# Altium footprint library SR PCB Library V01.PcbLib: 402 footprints (part 1 of 26)
Each footprint in its own frame and in the unit in brackets; x right, y up, seen from the top. Pads: shape width x height; smd on the part's side, far side on the other; paste and mask are expansions set on the pad; w line width, h text height; cw(c..) or ccw(c..) is an arc to the next point about the centre after c.
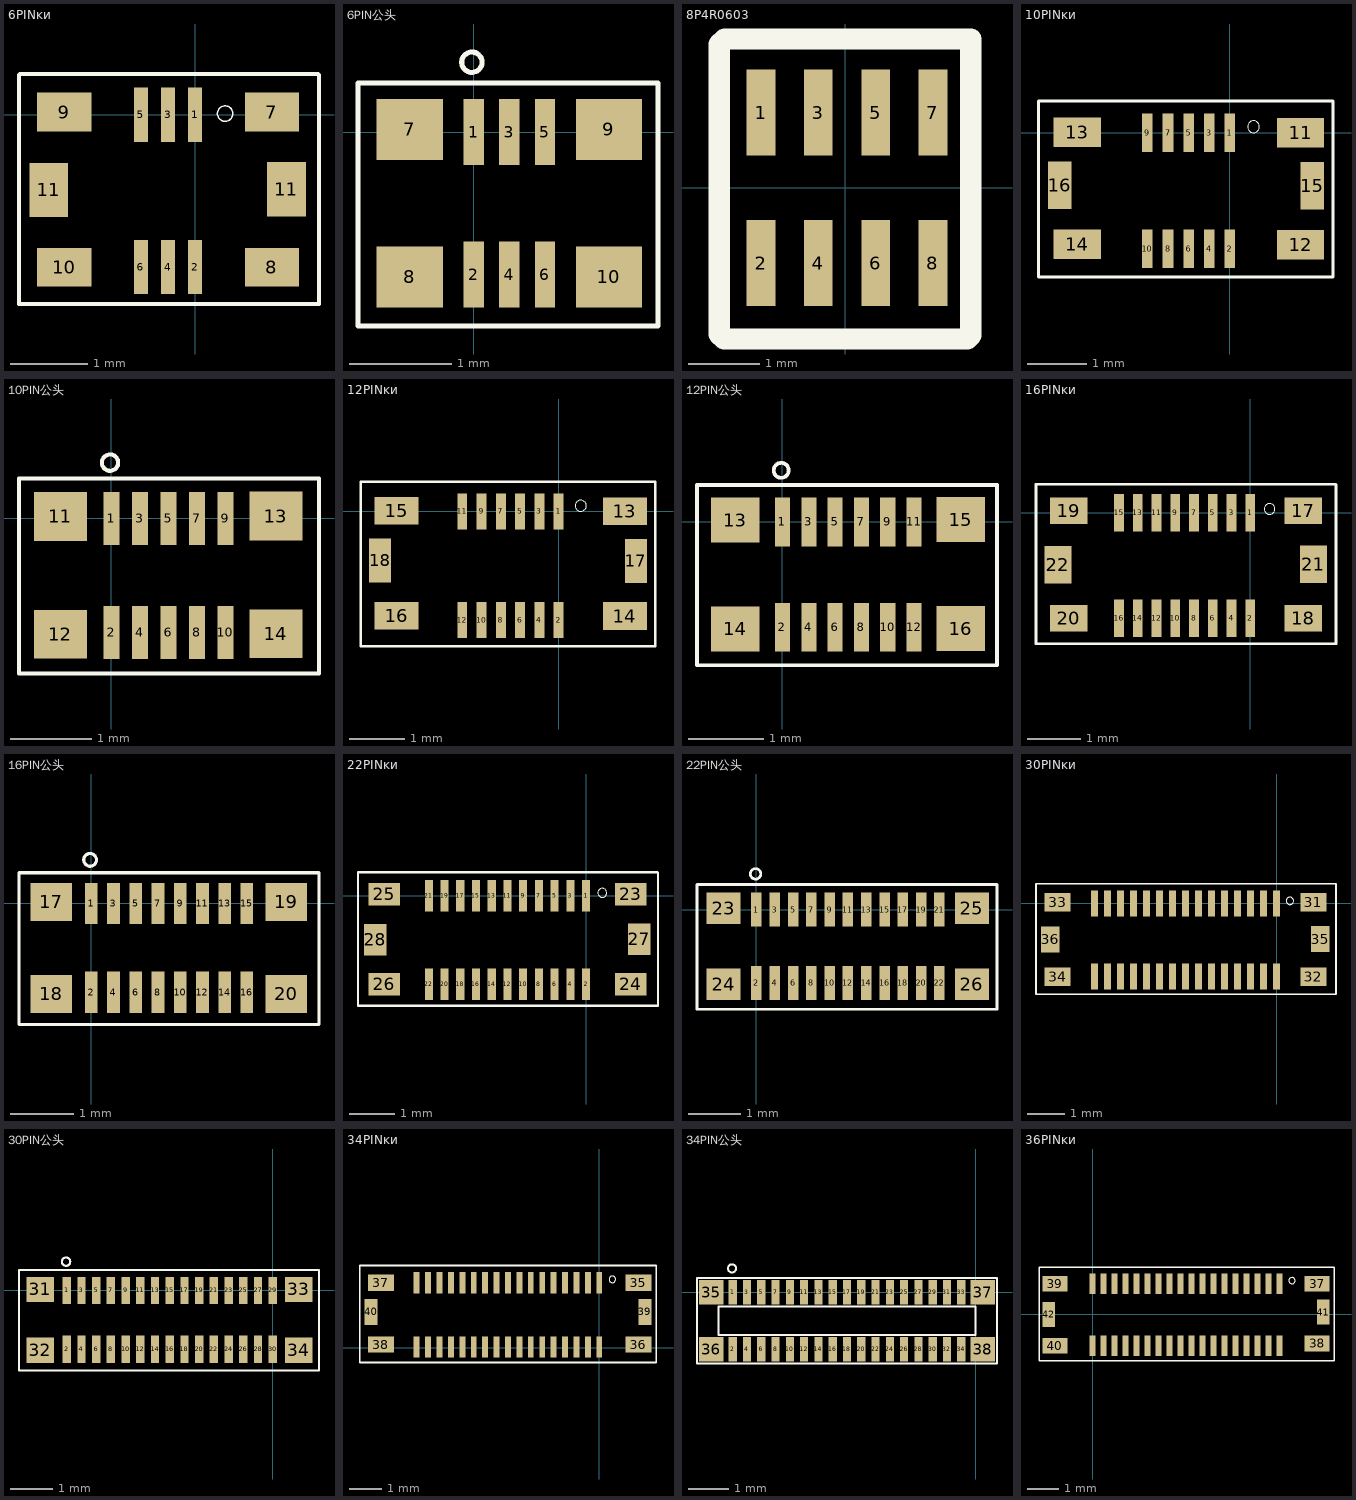
[diagram p0: the footprints below, top view; thin cyan lines are the x and y axes]

## 6PINĸͷ [mm]
pads (12):
  rect 0.18x0.7 smd: 1(0,0) 2(0,-1.97) 3(-0.35,0) 4(-0.35,-1.97) 5(-0.7,0) 6(-0.7,-1.97)
  rect 0.7x0.5 smd: 7(0.991,0.035) 8(0.991,-1.972) 9(-1.692,0.035) 10(-1.692,-1.972)
  rect 0.5x0.7 smd: 11(-1.89,-0.973) 11(1.18,-0.963)
Top Overlay:
  circle w0.02: c0.388,0.015 r0.1
  lines w0.05: -2.276,0.517 -2.276,-2.447 1.601,-2.447 1.601,0.517 1.591,0.528 -2.262,0.528

## 6PIN公头 [mm]
pads (10):
  rect 0.2x0.65 smd: 1(0,0) 2(0,-1.4) 3(0.35,0) 4(0.35,-1.4) 5(0.7,0) 6(0.7,-1.4)
  rect 0.65x0.6 smd: 7(-0.629,0.025) 8(-0.629,-1.422) 9(1.328,0.025) 10(1.328,-1.422)
Top Overlay:
  circle w0.05: c-0.017,0.686 r0.1
  lines w0.05: 1.8,-1.905 -1.137,-1.905 -1.137,0.483 1.8,0.483 ; 1.811,-1.905 1.811,0.483

## 8P4R0603 [mm]
pads (8):
  rect 0.4x1.2 smd: 1(-1.175,1.05) 2(-1.175,-1.05) 3(-0.375,1.05) 4(-0.375,-1.05) 5(0.425,1.05) 6(0.425,-1.05) 7(1.225,1.05) 8(1.225,-1.05)
Top Overlay:
  lines w0.3: -1.756,-2.041 -1.689,-2.108 1.705,-2.108 1.755,-2.058 1.755,2.079 -1.681,2.079 -1.756,2.004 -1.756,1.771 -1.756,-2.041

## 10PINĸͷ [mm]
pads (16):
  rect 0.18x0.65 smd: 1(0,0) 2(0,-1.97) 3(-0.35,0) 4(-0.35,-1.97) 5(-0.7,0) 6(-0.7,-1.97) 7(-1.05,0) 8(-1.05,-1.97) 9(-1.4,0) 10(-1.4,-1.97)
  rect 0.8x0.5 smd: 11(1.201,0.003) 12(1.201,-1.897) 13(-2.59,0.01) 14(-2.59,-1.89)
  rect 0.4x0.8 smd: 15(1.401,-0.897) 16(-2.89,-0.89)
Top Overlay:
  circle w0.02: c0.401,0.103 r0.1
  lines w0.05: -3.25,-2.447 -3.25,0.54 1.751,0.54 1.751,-2.447 -3.25,-2.447

## 10PIN公头 [mm]
pads (14):
  rect 0.2x0.65 smd: 1(0,0) 2(0,-1.4) 3(0.35,0) 4(0.35,-1.4) 5(0.7,0) 6(0.7,-1.4) 7(1.05,0) 8(1.05,-1.4) 9(1.4,0) 10(1.4,-1.4)
  rect 0.65x0.6 smd: 11(-0.629,0.025) 12(-0.629,-1.422) 13(2.02,0.03) 14(2.02,-1.418)
Top Overlay:
  circle w0.05: c-0.017,0.686 r0.1
  lines w0.05: -1.137,-1.905 -1.137,0.49 2.55,0.49 2.55,-1.905 -1.137,-1.905

## 12PINĸͷ [mm]
pads (18):
  rect 0.18x0.65 smd: 1(0,0) 2(0,-1.97) 3(-0.35,0) 4(-0.35,-1.97) 5(-0.7,0) 6(-0.7,-1.97) 7(-1.05,0) 8(-1.05,-1.97) 9(-1.4,0) 10(-1.4,-1.97) 11(-1.75,0) 12(-1.75,-1.97)
  rect 0.8x0.5 smd: 13(1.201,0.003) 14(1.201,-1.897) 15(-2.94,0.01) 16(-2.94,-1.89)
  rect 0.4x0.8 smd: 17(1.401,-0.897) 18(-3.24,-0.89)
Top Overlay:
  circle w0.02: c0.401,0.103 r0.1
  lines w0.05: -3.59,-2.447 1.751,-2.447 1.751,0.54 -3.59,0.54 -3.59,-2.44

## 12PIN公头 [mm]
pads (16):
  rect 0.2x0.65 smd: 1(0,0) 2(0,-1.4) 3(0.35,0) 4(0.35,-1.4) 5(0.7,0) 6(0.7,-1.4) 7(1.05,0) 8(1.05,-1.4) 9(1.4,0) 10(1.4,-1.4) 11(1.75,0) 12(1.75,-1.4)
  rect 0.65x0.6 smd: 13(-0.629,0.025) 14(-0.629,-1.422) 15(2.37,0.03) 16(2.37,-1.418)
Top Overlay:
  circle w0.05: c-0.017,0.686 r0.1
  lines w0.05: -1.137,-1.905 2.853,-1.905 2.853,0.49 -1.137,0.49 -1.137,-1.905

## 16PINĸͷ [mm]
pads (22):
  rect 0.18x0.7 smd: 1(0,0) 2(0,-1.97) 3(-0.35,0) 4(-0.35,-1.97) 5(-0.7,0) 6(-0.7,-1.97) 7(-1.05,0) 8(-1.05,-1.97) 9(-1.4,0) 10(-1.4,-1.97) 11(-1.75,0) 12(-1.75,-1.97) 13(-2.1,0) 14(-2.1,-1.97) 15(-2.45,0) 16(-2.45,-1.97)
  rect 0.7x0.5 smd: 17(0.991,0.035) 18(0.991,-1.972) 19(-3.392,0.035) 20(-3.392,-1.972)
  rect 0.5x0.7 smd: 21(1.18,-0.963) 22(-3.59,-0.973)
Top Overlay:
  circle w0.02: c0.36,0.067 r0.1
  lines w0.05: 1.601,-2.447 -4,-2.447 -4,0.528 1.591,0.528 1.601,0.517 1.601,-2.429

## 16PIN公头 [mm]
pads (20):
  rect 0.2x0.65 smd: 1(0,0) 2(0,-1.4) 3(0.35,0) 4(0.35,-1.4) 5(0.7,0) 6(0.7,-1.4) 7(1.05,0) 8(1.05,-1.4) 9(1.4,0) 10(1.4,-1.4) 11(1.75,0) 12(1.75,-1.4) 13(2.1,0) 14(2.1,-1.4) 15(2.45,0) 16(2.45,-1.4)
  rect 0.65x0.6 smd: 17(-0.629,0.025) 18(-0.629,-1.422) 19(3.068,0.025) 20(3.068,-1.422)
Top Overlay:
  circle w0.05: c-0.017,0.686 r0.1
  lines w0.05: -1.137,-1.905 -1.137,0.483 3.585,0.483 3.585,-1.905 -1.137,-1.905

## 22PINĸͷ [mm]
pads (28):
  rect 0.18x0.7 smd: 1(0,0) 2(0,-1.97) 3(-0.35,0) 4(-0.35,-1.97) 5(-0.7,0) 6(-0.7,-1.97) 7(-1.05,0) 8(-1.05,-1.97) 9(-1.4,0) 10(-1.4,-1.97) 11(-1.75,0) 12(-1.75,-1.97) 13(-2.1,0) 14(-2.1,-1.97) 15(-2.45,0) 16(-2.45,-1.97) 17(-2.8,0) 18(-2.8,-1.97) 19(-3.15,0) 20(-3.15,-1.97) 21(-3.5,0) 22(-3.5,-1.97)
  rect 0.7x0.5 smd: 23(0.991,0.035) 24(0.991,-1.972) 25(-4.492,0.035) 26(-4.492,-1.972)
  rect 0.5x0.7 smd: 27(1.18,-0.963) 28(-4.69,-0.973)
Top Overlay:
  circle w0.02: c0.36,0.067 r0.1
  lines w0.05: -5.076,-2.447 -5.076,0.517 ; -5.07,-2.447 1.601,-2.447 ; -5.07,0.528 1.591,0.528 1.601,0.517 1.601,-2.429

## 22PIN公头 [mm]
pads (26):
  rect 0.2x0.65 smd: 1(0,0) 2(0,-1.4) 3(0.35,0) 4(0.35,-1.4) 5(0.7,0) 6(0.7,-1.4) 7(1.05,0) 8(1.05,-1.4) 9(1.4,0) 10(1.4,-1.4) 11(1.75,0) 12(1.75,-1.4) 13(2.1,0) 14(2.1,-1.4) 15(2.45,0) 16(2.45,-1.4) 17(2.8,0) 18(2.8,-1.4) 19(3.15,0) 20(3.15,-1.4) 21(3.5,0) 22(3.5,-1.4)
  rect 0.65x0.6 smd: 23(-0.629,0.025) 24(-0.629,-1.422) 25(4.118,0.025) 26(4.118,-1.422)
Top Overlay:
  circle w0.05: c-0.017,0.686 r0.1
  lines w0.05: 4.59,0.483 -1.137,0.483 -1.137,-1.905 4.6,-1.905 ; 4.601,-1.905 4.601,0.483

## 30PINĸͷ [mm]
height 11
pads (36):
  rect 0.18x0.7 smd: 1(0,0) 2(0,-1.97) 3(-0.35,0) 4(-0.35,-1.97) 5(-0.7,0) 6(-0.7,-1.97) 7(-1.05,0) 8(-1.05,-1.97) 9(-1.4,0) 10(-1.4,-1.97) 11(-1.75,0) 12(-1.75,-1.97) 13(-2.1,0) 14(-2.1,-1.97) 15(-2.45,0) 16(-2.45,-1.97) 17(-2.8,0) 18(-2.8,-1.97) 19(-3.15,0) 20(-3.15,-1.97) 21(-3.5,0) 22(-3.5,-1.97) 23(-3.85,0) 24(-3.85,-1.97) 25(-4.2,0) 26(-4.2,-1.97) 27(-4.55,0) 28(-4.55,-1.97) 29(-4.9,0) 30(-4.9,-1.97)
  rect 0.7x0.5 smd: 31(0.991,0.035) 32(0.991,-1.972) 33(-5.892,0.035) 34(-5.892,-1.972)
  rect 0.5x0.7 smd: 35(1.18,-0.963) 36(-6.09,-0.973)
Top Overlay:
  circle w0.02: c0.36,0.067 r0.1
  lines w0.05: -6.476,0.517 -6.476,-2.447 1.601,-2.447 ; -6.476,0.528 1.591,0.528 1.601,0.517 1.601,-2.429

## 30PIN公头 [mm]
height 11
pads (34):
  rect 0.2x0.65 smd: 1(-4.9,0) 2(-4.9,-1.4) 3(-4.55,0) 4(-4.55,-1.4) 5(-4.2,0) 6(-4.2,-1.4) 7(-3.85,0) 8(-3.85,-1.4) 9(-3.5,0) 10(-3.5,-1.4) 11(-3.15,0) 12(-3.15,-1.4) 13(-2.8,0) 14(-2.8,-1.4) 15(-2.45,0) 16(-2.45,-1.4) 17(-2.1,0) 18(-2.1,-1.4) 19(-1.75,0) 20(-1.75,-1.4) 21(-1.4,0) 22(-1.4,-1.4) 23(-1.05,0) 24(-1.05,-1.4) 25(-0.7,0) 26(-0.7,-1.4) 27(-0.35,0) 28(-0.35,-1.4) 29(0,0) 30(0,-1.4)
  rect 0.65x0.6 smd: 31(-5.529,0.025) 32(-5.529,-1.422) 33(0.618,0.025) 34(0.618,-1.422)
Top Overlay:
  circle w0.05: c-4.917,0.686 r0.1
  lines w0.05: 1.075,-1.905 -6.037,-1.905 -6.037,0.483 1.101,0.483 1.101,-1.905

## 34PINĸͷ [mm] "J?"
pads (40):
  rect 0.18x0.65 smd: 1(-0.001,1.997) 2(-0.001,0.027) 3(-0.351,1.997) 4(-0.351,0.027) 5(-0.701,1.997) 6(-0.701,0.027) 7(-1.051,1.997) 8(-1.051,0.027) 9(-1.401,1.997) 10(-1.401,0.027) 11(-1.751,1.997) 12(-1.751,0.027) 13(-2.101,1.997) 14(-2.101,0.027) 15(-2.451,1.997) 16(-2.451,0.027) 17(-2.801,1.997) 18(-2.801,0.027) 19(-3.151,1.997) 20(-3.151,0.027) 21(-3.501,1.997) 22(-3.501,0.027) 23(-3.851,1.997) 24(-3.851,0.027) 25(-4.201,1.997) 26(-4.201,0.027) 27(-4.551,1.997) 28(-4.551,0.027) 29(-4.901,1.997) 30(-4.901,0.027) 31(-5.251,1.997) 32(-5.251,0.027) 33(-5.601,1.997) 34(-5.601,0.027)
  rect 0.8x0.5 smd: 35(1.2,2) 36(1.2,0.1) 37(-6.7,2) 38(-6.7,0.1)
  rect 0.4x0.8 smd: 39(1.4,1.1) 40(-7,1.1)
Top Overlay:
  circle w0.02: c0.4,2.1 r0.1
  lines w0.05: -7.35,-0.45 -7.35,2.525 1.75,2.525 1.75,-0.45 -7.35,-0.45

## 34PIN公头 [mm] "J?"
pads (38):
  rect 0.2x0.6 smd: 1(-5.95,0) 2(-5.95,-1.4) 3(-5.6,0) 4(-5.6,-1.4) 5(-5.25,0) 6(-5.25,-1.4) 7(-4.9,0) 8(-4.9,-1.4) 9(-4.55,0) 10(-4.55,-1.4) 11(-4.2,0) 12(-4.2,-1.4) 13(-3.85,0) 14(-3.85,-1.4) 15(-3.5,0) 16(-3.5,-1.4) 17(-3.15,0) 18(-3.15,-1.4) 19(-2.8,0) 20(-2.8,-1.4) 21(-2.45,0) 22(-2.45,-1.4) 23(-2.1,0) 24(-2.1,-1.4) 25(-1.75,0) 26(-1.75,-1.4) 27(-1.4,0) 28(-1.4,-1.4) 29(-1.05,0) 30(-1.05,-1.4) 31(-0.7,0) 32(-0.7,-1.4) 33(-0.35,0) 34(-0.35,-1.4)
  rect 0.6x0.6 smd: 35(-6.475,0) 36(-6.475,-1.4) 37(0.175,0) 38(0.175,-1.4)
Top Overlay:
  circle w0.05: c-5.967,0.586 r0.1
  lines w0.05: -6.825,-1.75 -6.125,-1.75 -0.175,-1.75 0.525,-1.75 0.525,-1.575 0.525,-1.4 0.525,0.175 0.525,0.35 -0.175,0.35 -6.125,0.35 -6.825,0.35 -6.825,0.175 -6.825,0 -6.825,-1.575 -6.825,-1.75 ; -6.3,-1.05 0,-1.05 0,-0.35 -6.3,-0.35 -6.3,-1.05

## 36PINĸͷ [mm] "J?"
pads (42):
  rect 0.18x0.65 smd: 1(5.95,0.97) 2(5.95,-1) 3(5.6,0.97) 4(5.6,-1) 5(5.25,0.97) 6(5.25,-1) 7(4.9,0.97) 8(4.9,-1) 9(4.55,0.97) 10(4.55,-1) 11(4.2,0.97) 12(4.2,-1) 13(3.85,0.97) 14(3.85,-1) 15(3.5,0.97) 16(3.5,-1) 17(3.15,0.97) 18(3.15,-1) 19(2.8,0.97) 20(2.8,-1) 21(2.45,0.97) 22(2.45,-1) 23(2.1,0.97) 24(2.1,-1) 25(1.75,0.97) 26(1.75,-1) 27(1.4,0.97) 28(1.4,-1) 29(1.05,0.97) 30(1.05,-1) 31(0.7,0.97) 32(0.7,-1) 33(0.35,0.97) 34(0.35,-1) 35(0,0.97) 36(0,-1)
  rect 0.8x0.5 smd: 37(7.151,0.973) 38(7.151,-0.927) 39(-1.2,0.97) 40(-1.2,-1)
  rect 0.4x0.8 smd: 41(7.351,0.073) 42(-1.4,0)
Top Overlay:
  circle w0.02: c6.351,1.073 r0.1
  lines w0.05: -1.7,-1.477 7.701,-1.477 7.701,1.498 -1.7,1.498 -1.7,-1.477